# Altium footprint library INDP2520X09L.PCBlib: 1 footprints
Each footprint in its own frame and in the unit in brackets; x right, y up, seen from the top. Pads: shape width x height; smd on the part's side, far side on the other; paste and mask are expansions set on the pad; w line width, h text height; cw(c..) or ccw(c..) is an arc to the next point about the centre after c.
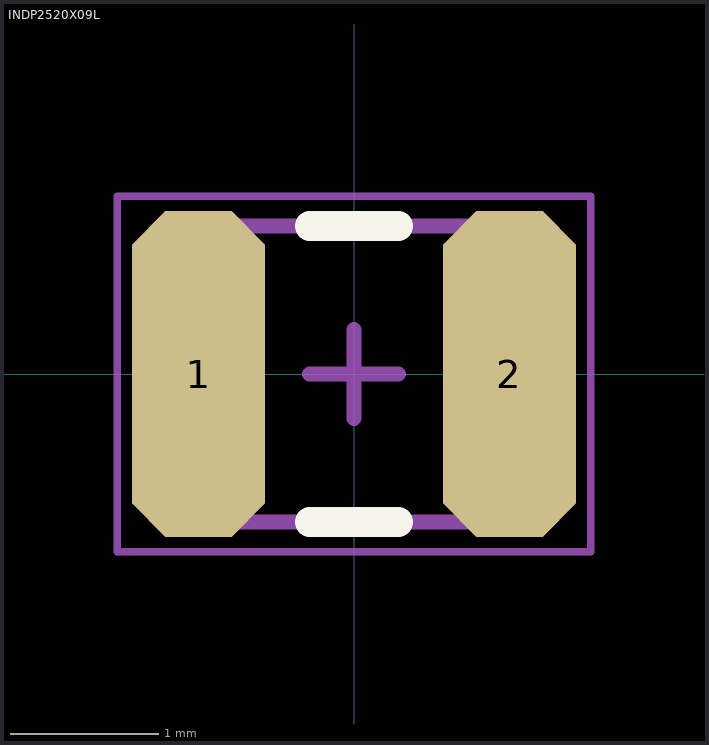
[diagram p0: the footprint, top view; thin cyan lines are the x and y axes]

## INDP2520X09L [mm]
height 0.9
pads (2):
  oct 0.9x2.2 smd: 1(-1.05,0) 2(1.05,0)
Top Overlay:
  lines w0.2: -0.3,-1 0.3,-1 ; -0.3,1 0.3,1
Mechanical 13:
  lines w0.1: -1.25,-1 1.25,-1 1.25,1 -1.25,1 -1.25,-1
Mechanical 15:
  lines w0.05: -1.6,-1.2 1.6,-1.2 1.6,1.2 -1.6,1.2 -1.6,-1.2
  lines w0.1: -0.3,0 0.3,0 ; 0,-0.3 0,0.3
3D body: height 0.9, standoff 0, extent -1,-1 1,1
3D body: height 0.9, standoff 0, extent 1,-1 1.25,1
3D body: height 0.9, standoff 0, extent -1.25,-1 -1,1